# Altium schematic symbol library Relay.Schlib: 1 symbol
Pins are listed as number, name and electrical type; pins without a type are passive.

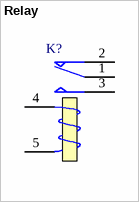
[diagram p0: symbol Relay]

## Relay
designator K?
SPDT Relay
pins: 1 COM, 2 NC, 3 NO, 4 T1, 5 T2